# Altium schematic symbol library MOUNTING-HOLES-PLATED-3MM.SchLib: 1 symbol
Pins are listed as number, name and electrical type; pins without a type are passive.

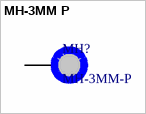
[diagram p0: symbol MH-3MM P]

## MH-3MM P
designator MH?, comment MH-3MM-P
3MM Mounting Holes Plated
footprint MH-3MM
pins: 1